# Altium schematic symbol library SparkFun-Boards.SCHLIB: 91 symbols (part 3 of 3)
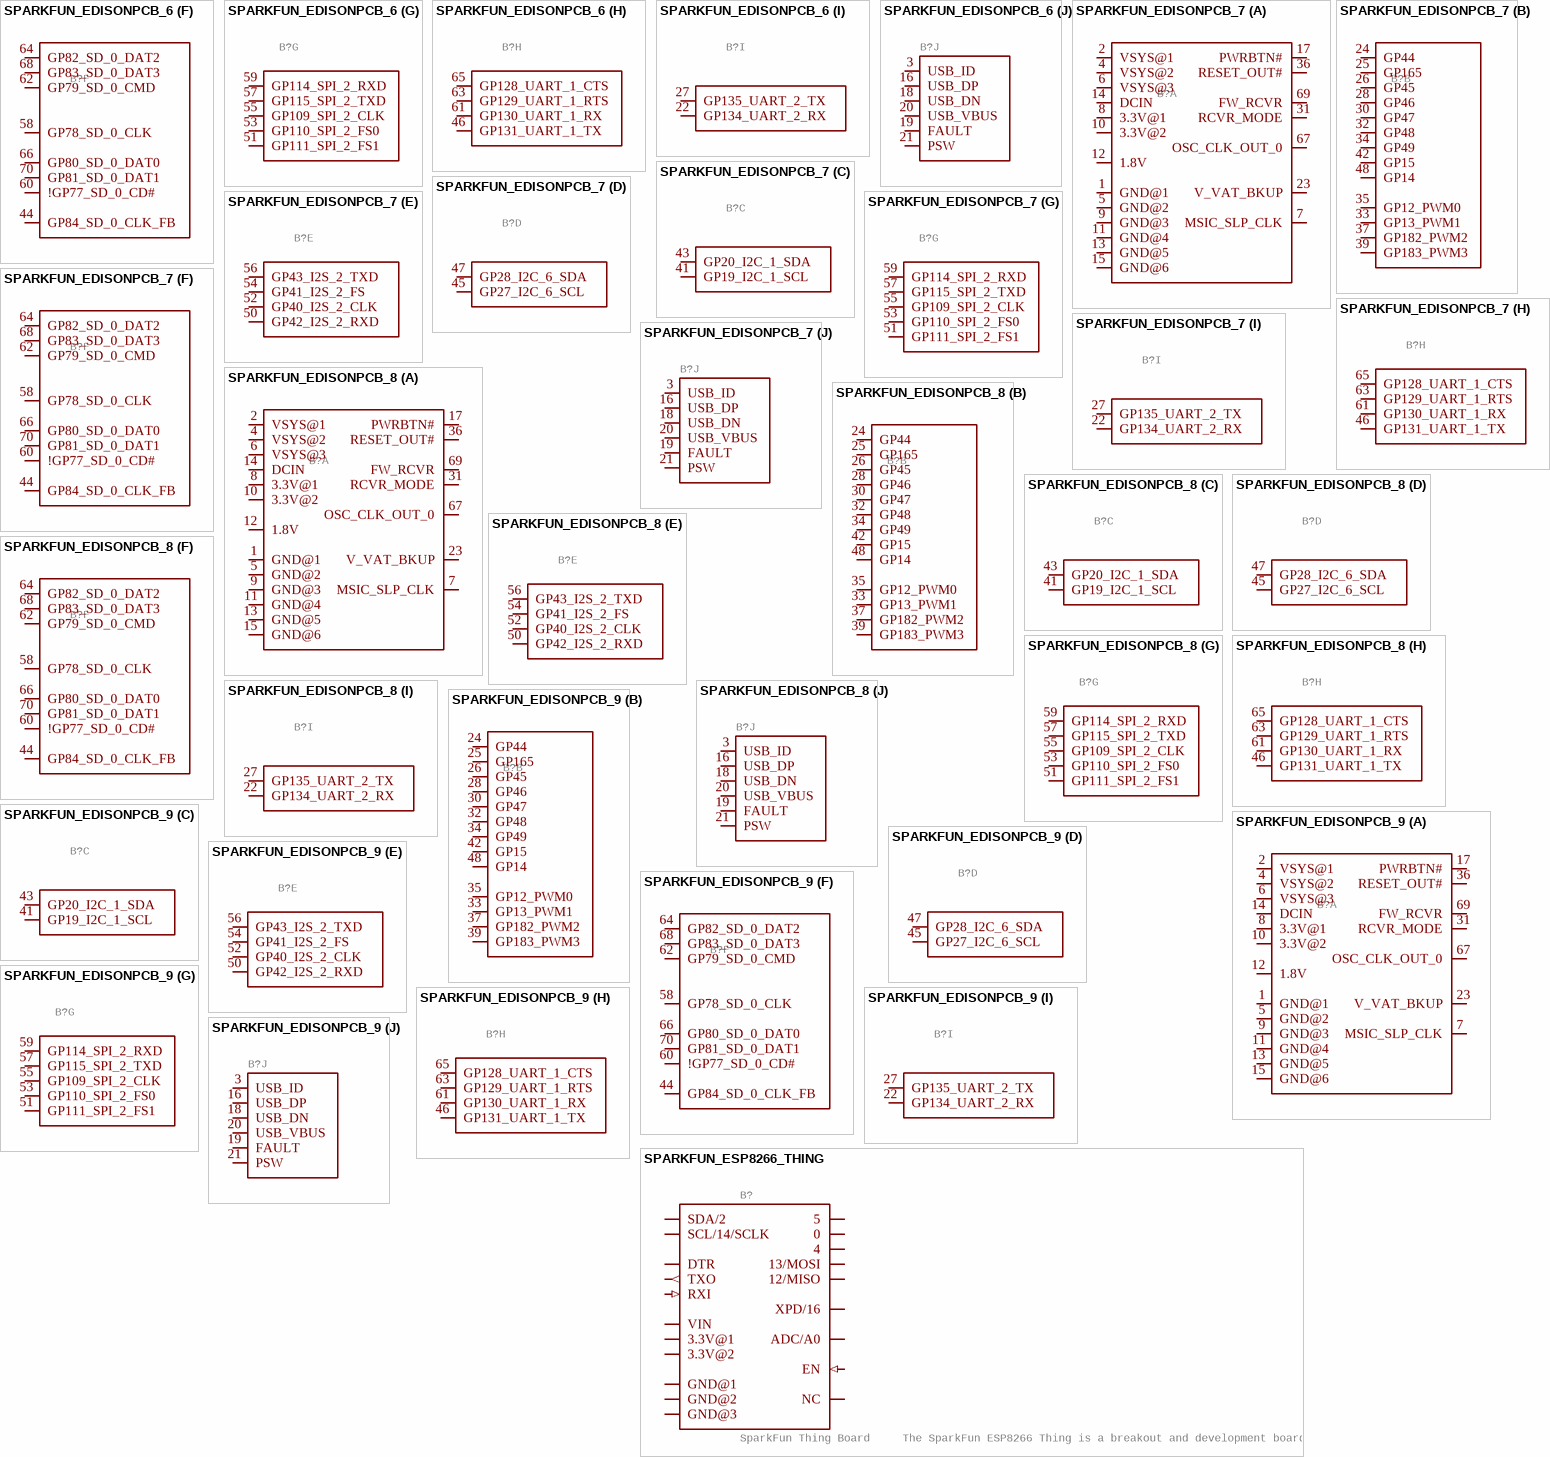
[diagram p14: symbols SPARKFUN_EDISONPCB_6 to SPARKFUN_ESP8266_THING]

## SPARKFUN_EDISONPCB_6
designator B?, comment SparkFun Edison     The IntelÂ® Edison is an ultra small computing platform that will change the way you look at embedded electronics. Each Edison packs a huge amount of tech goodies into a tiny package while still providing the same robust strength of your go-to single board computer. Powered by the IntelÂ® Atomâ„¢ SoC dual-core CPU and including an integrated WiFi, Bluetooth LE, and a 70-pin connector to attach a veritable slew of shield-like â€œBlocksâ€ which can be stacked on top of each other.   This device includes footprints for the Edison module itself, as well as the basic board outline used for our Edison blocks.   SparkFun Products: Intel Edison  SparkFun Console Block  SparkFun GPIO Block  SparkFun Battery Block  SparkFun Base Block  SparkFun 9DOF Block  SparkFun OLED Block  SparkFun Dual H-Bridge Block  SparkFun microSD Block  SparkFun ADC Block  SparkFun I2C Block  SparkFun Arduino Block  SparkFun Power Block  SparkFun PWM Block  SparkFun Raspberry Pi Block  SparkFun UART Block  (value not drawn)
GateName_1: _BASIC; SymbolName_1: EDISON_CONNECTOR_BASE; GateName_2: _GPIO; SymbolName_2: EDISON_CONNECTOR_GPIO; GateName_3: _I2C_1; SymbolName_3: EDISON_CONNECTOR_I2C_1; GateName_4: _I2C_6; SymbolName_4: EDISON_CONNECTOR_I2C_6; GateName_5: _I2S; SymbolName_5: EDISON_CONNECTOR_I2S_2; GateName_6: _SD; SymbolName_6: EDISON_CONNECTOR_SD; GateName_7: _SPI; SymbolName_7: EDISON_CONNECTOR_SPI_2; GateName_8: _UART_1; SymbolName_8: EDISON_CONNECTOR_UART_1; GateName_9: _UART_2; SymbolName_9: EDISON_CONNECTOR_UART_2; GateName_10: _USB; SymbolName_10: EDISON_CONNECTOR_USB; DeviceName: PCB; DeviceSetName: SPARKFUN_EDISON; LibraryName: SparkFun-Boards; Package: SPARKFUN_EDISON_PCB
footprint SPARKFUN_EDISON_PCB
part A pins: 1 GND@1 (power), 2 VSYS@1 (power), 4 VSYS@2 (power), 5 GND@2 (power), 6 VSYS@3 (power), 7 MSIC_SLP_CLK (io), 8 3.3V@1 (power), 9 GND@3 (power), 10 3.3V@2 (power), 11 GND@4 (power), 12 1.8V (power), 13 GND@5 (power), 14 DCIN (power), 15 GND@6 (power), 17 PWRBTN# (io), 23 V_VAT_BKUP (power), 31 RCVR_MODE (io), 36 RESET_OUT# (io), 67 OSC_CLK_OUT_0 (io), 69 FW_RCVR (io)
part B pins: 24 GP44 (io), 25 GP165 (io), 26 GP45 (io), 28 GP46 (io), 30 GP47 (io), 32 GP48 (io), 33 GP13_PWM1 (io), 34 GP49 (io), 35 GP12_PWM0 (io), 37 GP182_PWM2 (io), 39 GP183_PWM3 (io), 42 GP15 (io), 48 GP14 (io)
part C pins: 41 GP19_I2C_1_SCL (io), 43 GP20_I2C_1_SDA (io)
part D pins: 45 GP27_I2C_6_SCL (io), 47 GP28_I2C_6_SDA (io)
part E pins: 50 GP42_I2S_2_RXD (io), 52 GP40_I2S_2_CLK (io), 54 GP41_I2S_2_FS (io), 56 GP43_I2S_2_TXD (io)
part F pins: 44 GP84_SD_0_CLK_FB (io), 58 GP78_SD_0_CLK (io), 60 !GP77_SD_0_CD# (io), 62 GP79_SD_0_CMD (io), 64 GP82_SD_0_DAT2 (io), 66 GP80_SD_0_DAT0 (io), 68 GP83_SD_0_DAT3 (io), 70 GP81_SD_0_DAT1 (io)
part G pins: 51 GP111_SPI_2_FS1 (io), 53 GP110_SPI_2_FS0 (io), 55 GP109_SPI_2_CLK (io), 57 GP115_SPI_2_TXD (io), 59 GP114_SPI_2_RXD (io)
part H pins: 46 GP131_UART_1_TX (io), 61 GP130_UART_1_RX (io), 63 GP129_UART_1_RTS (io), 65 GP128_UART_1_CTS (io)
part I pins: 22 GP134_UART_2_RX (io), 27 GP135_UART_2_TX (io)
part J pins: 3 USB_ID (io), 16 USB_DP (io), 18 USB_DN (io), 19 FAULT (io), 20 USB_VBUS (io), 21 PSW (io)

## SPARKFUN_EDISONPCB_7
designator B?, comment SparkFun Edison     The IntelÂ® Edison is an ultra small computing platform that will change the way you look at embedded electronics. Each Edison packs a huge amount of tech goodies into a tiny package while still providing the same robust strength of your go-to single board computer. Powered by the IntelÂ® Atomâ„¢ SoC dual-core CPU and including an integrated WiFi, Bluetooth LE, and a 70-pin connector to attach a veritable slew of shield-like â€œBlocksâ€ which can be stacked on top of each other.   This device includes footprints for the Edison module itself, as well as the basic board outline used for our Edison blocks.   SparkFun Products: Intel Edison  SparkFun Console Block  SparkFun GPIO Block  SparkFun Battery Block  SparkFun Base Block  SparkFun 9DOF Block  SparkFun OLED Block  SparkFun Dual H-Bridge Block  SparkFun microSD Block  SparkFun ADC Block  SparkFun I2C Block  SparkFun Arduino Block  SparkFun Power Block  SparkFun PWM Block  SparkFun Raspberry Pi Block  SparkFun UART Block  (value not drawn)
GateName_1: _BASIC; SymbolName_1: EDISON_CONNECTOR_BASE; GateName_2: _GPIO; SymbolName_2: EDISON_CONNECTOR_GPIO; GateName_3: _I2C_1; SymbolName_3: EDISON_CONNECTOR_I2C_1; GateName_4: _I2C_6; SymbolName_4: EDISON_CONNECTOR_I2C_6; GateName_5: _I2S; SymbolName_5: EDISON_CONNECTOR_I2S_2; GateName_6: _SD; SymbolName_6: EDISON_CONNECTOR_SD; GateName_7: _SPI; SymbolName_7: EDISON_CONNECTOR_SPI_2; GateName_8: _UART_1; SymbolName_8: EDISON_CONNECTOR_UART_1; GateName_9: _UART_2; SymbolName_9: EDISON_CONNECTOR_UART_2; GateName_10: _USB; SymbolName_10: EDISON_CONNECTOR_USB; DeviceName: PCB; DeviceSetName: SPARKFUN_EDISON; LibraryName: SparkFun-Boards; Package: SPARKFUN_EDISON_PCB
footprint SPARKFUN_EDISON_PCB
part A pins: 1 GND@1 (power), 2 VSYS@1 (power), 4 VSYS@2 (power), 5 GND@2 (power), 6 VSYS@3 (power), 7 MSIC_SLP_CLK (io), 8 3.3V@1 (power), 9 GND@3 (power), 10 3.3V@2 (power), 11 GND@4 (power), 12 1.8V (power), 13 GND@5 (power), 14 DCIN (power), 15 GND@6 (power), 17 PWRBTN# (io), 23 V_VAT_BKUP (power), 31 RCVR_MODE (io), 36 RESET_OUT# (io), 67 OSC_CLK_OUT_0 (io), 69 FW_RCVR (io)
part B pins: 24 GP44 (io), 25 GP165 (io), 26 GP45 (io), 28 GP46 (io), 30 GP47 (io), 32 GP48 (io), 33 GP13_PWM1 (io), 34 GP49 (io), 35 GP12_PWM0 (io), 37 GP182_PWM2 (io), 39 GP183_PWM3 (io), 42 GP15 (io), 48 GP14 (io)
part C pins: 41 GP19_I2C_1_SCL (io), 43 GP20_I2C_1_SDA (io)
part D pins: 45 GP27_I2C_6_SCL (io), 47 GP28_I2C_6_SDA (io)
part E pins: 50 GP42_I2S_2_RXD (io), 52 GP40_I2S_2_CLK (io), 54 GP41_I2S_2_FS (io), 56 GP43_I2S_2_TXD (io)
part F pins: 44 GP84_SD_0_CLK_FB (io), 58 GP78_SD_0_CLK (io), 60 !GP77_SD_0_CD# (io), 62 GP79_SD_0_CMD (io), 64 GP82_SD_0_DAT2 (io), 66 GP80_SD_0_DAT0 (io), 68 GP83_SD_0_DAT3 (io), 70 GP81_SD_0_DAT1 (io)
part G pins: 51 GP111_SPI_2_FS1 (io), 53 GP110_SPI_2_FS0 (io), 55 GP109_SPI_2_CLK (io), 57 GP115_SPI_2_TXD (io), 59 GP114_SPI_2_RXD (io)
part H pins: 46 GP131_UART_1_TX (io), 61 GP130_UART_1_RX (io), 63 GP129_UART_1_RTS (io), 65 GP128_UART_1_CTS (io)
part I pins: 22 GP134_UART_2_RX (io), 27 GP135_UART_2_TX (io)
part J pins: 3 USB_ID (io), 16 USB_DP (io), 18 USB_DN (io), 19 FAULT (io), 20 USB_VBUS (io), 21 PSW (io)

## SPARKFUN_EDISONPCB_8
designator B?, comment SparkFun Edison     The IntelÂ® Edison is an ultra small computing platform that will change the way you look at embedded electronics. Each Edison packs a huge amount of tech goodies into a tiny package while still providing the same robust strength of your go-to single board computer. Powered by the IntelÂ® Atomâ„¢ SoC dual-core CPU and including an integrated WiFi, Bluetooth LE, and a 70-pin connector to attach a veritable slew of shield-like â€œBlocksâ€ which can be stacked on top of each other.   This device includes footprints for the Edison module itself, as well as the basic board outline used for our Edison blocks.   SparkFun Products: Intel Edison  SparkFun Console Block  SparkFun GPIO Block  SparkFun Battery Block  SparkFun Base Block  SparkFun 9DOF Block  SparkFun OLED Block  SparkFun Dual H-Bridge Block  SparkFun microSD Block  SparkFun ADC Block  SparkFun I2C Block  SparkFun Arduino Block  SparkFun Power Block  SparkFun PWM Block  SparkFun Raspberry Pi Block  SparkFun UART Block  (value not drawn)
GateName_1: _BASIC; SymbolName_1: EDISON_CONNECTOR_BASE; GateName_2: _GPIO; SymbolName_2: EDISON_CONNECTOR_GPIO; GateName_3: _I2C_1; SymbolName_3: EDISON_CONNECTOR_I2C_1; GateName_4: _I2C_6; SymbolName_4: EDISON_CONNECTOR_I2C_6; GateName_5: _I2S; SymbolName_5: EDISON_CONNECTOR_I2S_2; GateName_6: _SD; SymbolName_6: EDISON_CONNECTOR_SD; GateName_7: _SPI; SymbolName_7: EDISON_CONNECTOR_SPI_2; GateName_8: _UART_1; SymbolName_8: EDISON_CONNECTOR_UART_1; GateName_9: _UART_2; SymbolName_9: EDISON_CONNECTOR_UART_2; GateName_10: _USB; SymbolName_10: EDISON_CONNECTOR_USB; DeviceName: PCB; DeviceSetName: SPARKFUN_EDISON; LibraryName: SparkFun-Boards; Package: SPARKFUN_EDISON_PCB
footprint SPARKFUN_EDISON_PCB
part A pins: 1 GND@1 (power), 2 VSYS@1 (power), 4 VSYS@2 (power), 5 GND@2 (power), 6 VSYS@3 (power), 7 MSIC_SLP_CLK (io), 8 3.3V@1 (power), 9 GND@3 (power), 10 3.3V@2 (power), 11 GND@4 (power), 12 1.8V (power), 13 GND@5 (power), 14 DCIN (power), 15 GND@6 (power), 17 PWRBTN# (io), 23 V_VAT_BKUP (power), 31 RCVR_MODE (io), 36 RESET_OUT# (io), 67 OSC_CLK_OUT_0 (io), 69 FW_RCVR (io)
part B pins: 24 GP44 (io), 25 GP165 (io), 26 GP45 (io), 28 GP46 (io), 30 GP47 (io), 32 GP48 (io), 33 GP13_PWM1 (io), 34 GP49 (io), 35 GP12_PWM0 (io), 37 GP182_PWM2 (io), 39 GP183_PWM3 (io), 42 GP15 (io), 48 GP14 (io)
part C pins: 41 GP19_I2C_1_SCL (io), 43 GP20_I2C_1_SDA (io)
part D pins: 45 GP27_I2C_6_SCL (io), 47 GP28_I2C_6_SDA (io)
part E pins: 50 GP42_I2S_2_RXD (io), 52 GP40_I2S_2_CLK (io), 54 GP41_I2S_2_FS (io), 56 GP43_I2S_2_TXD (io)
part F pins: 44 GP84_SD_0_CLK_FB (io), 58 GP78_SD_0_CLK (io), 60 !GP77_SD_0_CD# (io), 62 GP79_SD_0_CMD (io), 64 GP82_SD_0_DAT2 (io), 66 GP80_SD_0_DAT0 (io), 68 GP83_SD_0_DAT3 (io), 70 GP81_SD_0_DAT1 (io)
part G pins: 51 GP111_SPI_2_FS1 (io), 53 GP110_SPI_2_FS0 (io), 55 GP109_SPI_2_CLK (io), 57 GP115_SPI_2_TXD (io), 59 GP114_SPI_2_RXD (io)
part H pins: 46 GP131_UART_1_TX (io), 61 GP130_UART_1_RX (io), 63 GP129_UART_1_RTS (io), 65 GP128_UART_1_CTS (io)
part I pins: 22 GP134_UART_2_RX (io), 27 GP135_UART_2_TX (io)
part J pins: 3 USB_ID (io), 16 USB_DP (io), 18 USB_DN (io), 19 FAULT (io), 20 USB_VBUS (io), 21 PSW (io)

## SPARKFUN_EDISONPCB_9
designator B?, comment SparkFun Edison     The IntelÂ® Edison is an ultra small computing platform that will change the way you look at embedded electronics. Each Edison packs a huge amount of tech goodies into a tiny package while still providing the same robust strength of your go-to single board computer. Powered by the IntelÂ® Atomâ„¢ SoC dual-core CPU and including an integrated WiFi, Bluetooth LE, and a 70-pin connector to attach a veritable slew of shield-like â€œBlocksâ€ which can be stacked on top of each other.   This device includes footprints for the Edison module itself, as well as the basic board outline used for our Edison blocks.   SparkFun Products: Intel Edison  SparkFun Console Block  SparkFun GPIO Block  SparkFun Battery Block  SparkFun Base Block  SparkFun 9DOF Block  SparkFun OLED Block  SparkFun Dual H-Bridge Block  SparkFun microSD Block  SparkFun ADC Block  SparkFun I2C Block  SparkFun Arduino Block  SparkFun Power Block  SparkFun PWM Block  SparkFun Raspberry Pi Block  SparkFun UART Block  (value not drawn)
GateName_1: _BASIC; SymbolName_1: EDISON_CONNECTOR_BASE; GateName_2: _GPIO; SymbolName_2: EDISON_CONNECTOR_GPIO; GateName_3: _I2C_1; SymbolName_3: EDISON_CONNECTOR_I2C_1; GateName_4: _I2C_6; SymbolName_4: EDISON_CONNECTOR_I2C_6; GateName_5: _I2S; SymbolName_5: EDISON_CONNECTOR_I2S_2; GateName_6: _SD; SymbolName_6: EDISON_CONNECTOR_SD; GateName_7: _SPI; SymbolName_7: EDISON_CONNECTOR_SPI_2; GateName_8: _UART_1; SymbolName_8: EDISON_CONNECTOR_UART_1; GateName_9: _UART_2; SymbolName_9: EDISON_CONNECTOR_UART_2; GateName_10: _USB; SymbolName_10: EDISON_CONNECTOR_USB; DeviceName: PCB; DeviceSetName: SPARKFUN_EDISON; LibraryName: SparkFun-Boards; Package: SPARKFUN_EDISON_PCB
footprint SPARKFUN_EDISON_PCB
part A pins: 1 GND@1 (power), 2 VSYS@1 (power), 4 VSYS@2 (power), 5 GND@2 (power), 6 VSYS@3 (power), 7 MSIC_SLP_CLK (io), 8 3.3V@1 (power), 9 GND@3 (power), 10 3.3V@2 (power), 11 GND@4 (power), 12 1.8V (power), 13 GND@5 (power), 14 DCIN (power), 15 GND@6 (power), 17 PWRBTN# (io), 23 V_VAT_BKUP (power), 31 RCVR_MODE (io), 36 RESET_OUT# (io), 67 OSC_CLK_OUT_0 (io), 69 FW_RCVR (io)
part B pins: 24 GP44 (io), 25 GP165 (io), 26 GP45 (io), 28 GP46 (io), 30 GP47 (io), 32 GP48 (io), 33 GP13_PWM1 (io), 34 GP49 (io), 35 GP12_PWM0 (io), 37 GP182_PWM2 (io), 39 GP183_PWM3 (io), 42 GP15 (io), 48 GP14 (io)
part C pins: 41 GP19_I2C_1_SCL (io), 43 GP20_I2C_1_SDA (io)
part D pins: 45 GP27_I2C_6_SCL (io), 47 GP28_I2C_6_SDA (io)
part E pins: 50 GP42_I2S_2_RXD (io), 52 GP40_I2S_2_CLK (io), 54 GP41_I2S_2_FS (io), 56 GP43_I2S_2_TXD (io)
part F pins: 44 GP84_SD_0_CLK_FB (io), 58 GP78_SD_0_CLK (io), 60 !GP77_SD_0_CD# (io), 62 GP79_SD_0_CMD (io), 64 GP82_SD_0_DAT2 (io), 66 GP80_SD_0_DAT0 (io), 68 GP83_SD_0_DAT3 (io), 70 GP81_SD_0_DAT1 (io)
part G pins: 51 GP111_SPI_2_FS1 (io), 53 GP110_SPI_2_FS0 (io), 55 GP109_SPI_2_CLK (io), 57 GP115_SPI_2_TXD (io), 59 GP114_SPI_2_RXD (io)
part H pins: 46 GP131_UART_1_TX (io), 61 GP130_UART_1_RX (io), 63 GP129_UART_1_RTS (io), 65 GP128_UART_1_CTS (io)
part I pins: 22 GP134_UART_2_RX (io), 27 GP135_UART_2_TX (io)
part J pins: 3 USB_ID (io), 16 USB_DP (io), 18 USB_DN (io), 19 FAULT (io), 20 USB_VBUS (io), 21 PSW (io)

## SPARKFUN_ESP8266_THING
designator B?, comment SparkFun Thing Board     The SparkFun ESP8266 Thing is a breakout and development board for the ESP8266 WiFi SoC   SparkFun Products:  SparkFun ESP8266 Thing
GateName_1: G$1; SymbolName_1: ESP8266_THING; DeviceSetName: SPARKFUN_ESP8266_THING; SF_ID: WRL-13231; LibraryName: SparkFun-Boards; Package: SPARKFUN_ESP8266_THING
footprint SPARKFUN_ESP8266_THING
pins: 0 (io), 3.3V@1 (power), 3.3V@2 (power), 4 (io), 5 (io), 12 12/MISO (io), 13 13/MOSI (io), ADC ADC/A0 (io), DTR (io), EN (in), GND@1 (power), GND@2 (power), GND@3 (power), NC, RXI (in), SCL SCL/14/SCLK (io), SDA SDA/2 (io), TXO (out), VIN (power), XPD XPD/16 (io)

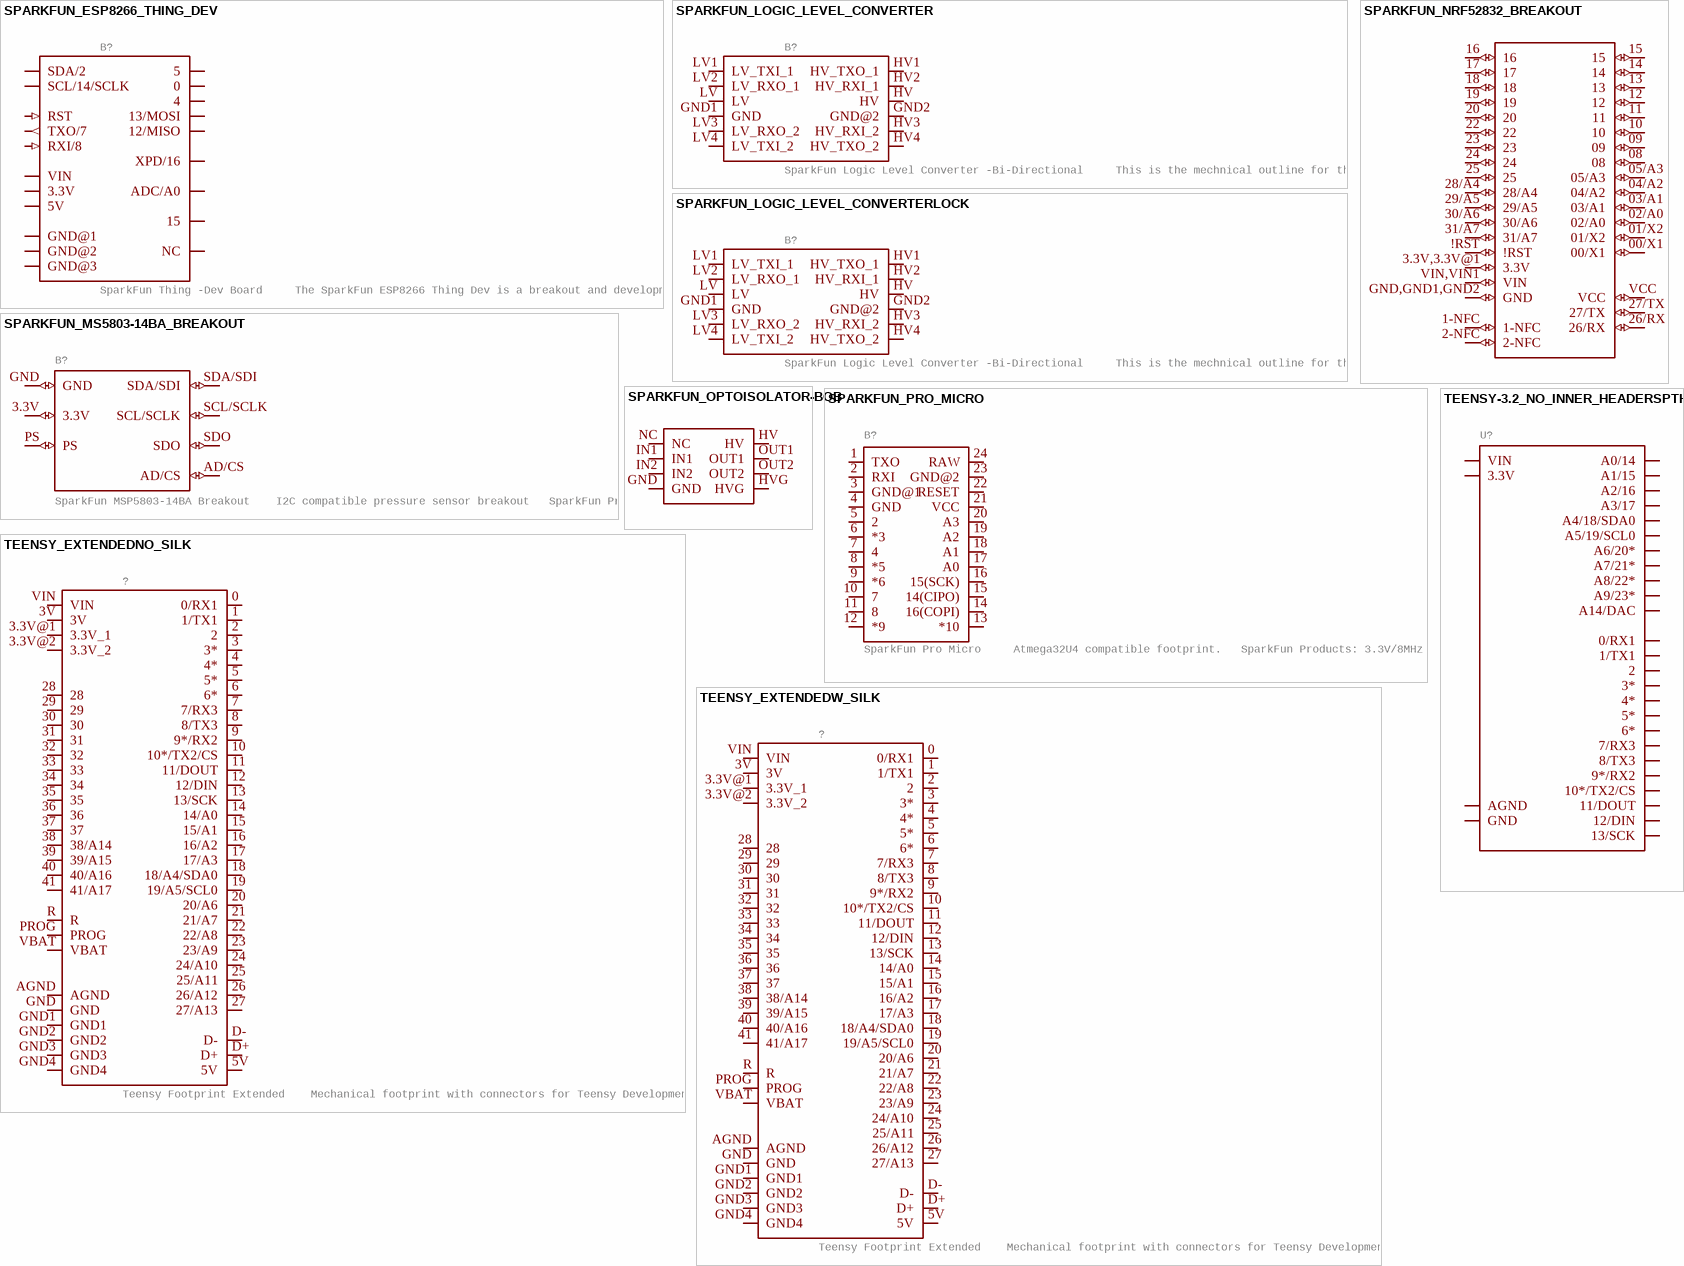
[diagram p11: symbols SPARKFUN_ESP8266_THING_DEV to TEENSY_EXTENDEDW_SILK]

## SPARKFUN_ESP8266_THING_DEV
designator B?, comment SparkFun Thing -Dev Board     The SparkFun ESP8266 Thing Dev is a breakout and development board for the ESP8266 WiFi SoC, with an integrated FTDI USB-to-Serial chip.   SparkFun Products:  SparkFun ESP8266 Thing-Dev Board
GateName_1: G$1; SymbolName_1: ESP8266_THING_DEV; DeviceSetName: SPARKFUN_ESP8266_THING_DEV; SF_ID: WRL-13711; LibraryName: SparkFun-Boards; Package: SPARKFUN_ESP8266_THING_DEV
footprint SPARKFUN_ESP8266_THING_DEV
pins: 0 (io), 2 SDA/2 (io), 3.3V (power), 4 (io), 5 (io), 5V (power), 12 12/MISO (io), 13 13/MOSI (io), 14 SCL/14/SCLK (io), 15 (io), 16 XPD/16 (io), ADC ADC/A0 (io), GND@1 (power), GND@2 (power), GND@3 (power), NC, RST (in), RX RXI/8 (in), TX TXO/7 (out), VIN (power)

## SPARKFUN_LOGIC_LEVEL_CONVERTER
designator B?, comment SparkFun Logic Level Converter -Bi-Directional     This is the mechnical outline for the 3.3V - 5V bi directional logic level converter.    *Note, the "LOCK" Package has the header pins staggered by an offset of 5 mils (off center line), so that when you slide a row of standard 0.1" headers into the PTH pads, it will hold position vertically.See the follwing turorial for more information on this type of special footprints: Sneaky Footprints   SparkFun Products: SparkFun Logic Level Converter - Bi-Directional
GateName_1: G$1; SymbolName_1: LOGIC_LEVEL_CONVERTER; DeviceSetName: SPARKFUN_LOGIC_LEVEL_CONVERTER; LibraryName: SparkFun-Boards; Package: SPARKFUN_LOGIC_LEVEL_CONVERTER
footprint SPARKFUN_LOGIC_LEVEL_CONVERTER
pins: GND1 GND (power), GND2 GND@2 (power), HV (power), HV1 HV_TXO_1 (io), HV2 HV_RXI_1 (io), HV3 HV_RXI_2 (io), HV4 HV_TXO_2 (io), LV (power), LV1 LV_TXI_1 (io), LV2 LV_RXO_1 (io), LV3 LV_RXO_2 (io), LV4 LV_TXI_2 (io)

## SPARKFUN_LOGIC_LEVEL_CONVERTERLOCK
designator B?, comment SparkFun Logic Level Converter -Bi-Directional     This is the mechnical outline for the 3.3V - 5V bi directional logic level converter.    *Note, the "LOCK" Package has the header pins staggered by an offset of 5 mils (off center line), so that when you slide a row of standard 0.1" headers into the PTH pads, it will hold position vertically.See the follwing turorial for more information on this type of special footprints: Sneaky Footprints   SparkFun Products: SparkFun Logic Level Converter - Bi-Directional
GateName_1: G$1; SymbolName_1: LOGIC_LEVEL_CONVERTER; DeviceName: LOCK; DeviceSetName: SPARKFUN_LOGIC_LEVEL_CONVERTER; LibraryName: SparkFun-Boards; Package: SPARKFUN_LOGIC_LEVEL_CONVERTER_LOCK
footprint SPARKFUN_LOGIC_LEVEL_CONVERTER_LOCK
pins: GND1 GND (power), GND2 GND@2 (power), HV (power), HV1 HV_TXO_1 (io), HV2 HV_RXI_1 (io), HV3 HV_RXI_2 (io), HV4 HV_TXO_2 (io), LV (power), LV1 LV_TXI_1 (io), LV2 LV_RXO_1 (io), LV3 LV_RXO_2 (io), LV4 LV_TXI_2 (io)

## SPARKFUN_MS5803-14BA_BREAKOUT
designator B?, comment SparkFun MSP5803-14BA Breakout    I2C compatible pressure sensor breakout   SparkFun Products: SparkFun MSP5803-14BA Breakout
GateName_1: G$1; SymbolName_1: SPARKFUN_MS5803-14BA_BREAKOUT; SF_ID: SEN-12909; LibraryName: SparkFun-Boards; DeviceSetName: SPARKFUN_MS5803-14BA_BREAKOUT; Package: SPARKFUN_MS5803-14BA_BREAKOUT
footprint SPARKFUN_MS5803-14BA_BREAKOUT
pins: 3.3V (io), AD/CS (io), GND (io), PS (io), SCL/SCLK (io), SDA/SDI (io), SDO (io)

## SPARKFUN_NRF52832_BREAKOUT
designator B?, comment SparkFun nRF52832 Breakout    SoC microcontroller with BLE, ANT, Nordic support, and 2.4Ghz multiprotocol radio   SparkFun Products: SparkFun nRF52832 Breakout  (value not drawn)
GateName_1: G$1; SymbolName_1: SPARKFUN_NRF52832_BREAKOUT; SF_ID: WRL-13990; LibraryName: SparkFun-Boards; DeviceSetName: SPARKFUN_NRF52832_BREAKOUT; Package: SPARKFUN_NRF52832_BREAKOUT
footprint SPARKFUN_NRF52832_BREAKOUT
pins: 00/X1 (io), 1-NFC (io), 01/X2 (io), 2-NFC (io), 02/A0 (io), 3.3V,3.3V@1 3.3V (io), 03/A1 (io), 04/A2 (io), 05/A3 (io), 08 (io), 09 (io), 10 (io), 11 (io), 12 (io), 13 (io), 14 (io), 15 (io), 16 (io), 17 (io), 18 (io), 19 (io), 20 (io), 22 (io), 23 (io), 24 (io), 25 (io), 26/RX (io), 27/TX (io), 28/A4 (io), 29/A5 (io), 30/A6 (io), 31/A7 (io), !RST (io), GND,GND1,GND2 GND (io), VCC (io), VIN,VIN1 VIN (io)

## SPARKFUN_OPTOISOLATOR-BOB
designator ?
GateName_1: G$1; SymbolName_1: SPARKFUN_OPTOISOLATOR-BOB; LibraryName: SparkFun-Boards; DeviceSetName: SPARKFUN_OPTOISOLATOR-BOB; Package: SPARKFUN_OPTOISOLATOR-BOB
footprint SPARKFUN_OPTOISOLATOR-BOB
pins: GND (io), HV (io), HVG (io), IN1 (io), IN2 (io), NC (io), OUT1 (io), OUT2 (io)

## SPARKFUN_PRO_MICRO
designator B?, comment SparkFun Pro Micro     Atmega32U4 compatible footprint.   SparkFun Products: 3.3V/8MHz  5V/16MHz
GateName_1: G$1; SymbolName_1: SPARKFUN_PRO_MICRO; LibraryName: SparkFun-Boards; DeviceSetName: SPARKFUN_PRO_MICRO; Package: SPARKFUN_PRO_MICRO
footprint SPARKFUN_PRO_MICRO
pins: 1 TXO (io), 2 RXI (io), 3 GND@1 (power), 4 GND (power), 5 2 (io), 6 *3 (io), 7 4 (io), 8 *5 (io), 9 *6 (io), 10 7 (io), 11 8 (io), 12 *9 (io), 13 *10 (io), 14 16(COPI) (io), 15 14(CIPO) (io), 16 15(SCK) (io), 17 A0 (io), 18 A1 (io), 19 A2 (io), 20 A3 (io), 21 VCC (power), 22 RESET (io), 23 GND@2 (power), 24 RAW (power)

## TEENSY-3.2_NO_INNER_HEADERSPTH
designator U?
GateName_1: U1; SymbolName_1: TEENSY_TEENSY-3.2; DeviceName: PTH; DeviceSetName: TEENSY-3.2_NO_INNER_HEADERS; LibraryName: SparkFun-Boards; Package: TEENSY_TEENSY-3.2-PTH
footprint TEENSY_TEENSY-3.2-PTH
pins: 0 0/RX1 (io), 1 1/TX1 (io), 2 (io), 3 3* (io), 3.3V,3.3V-1 3.3V (io), 4 4* (io), 5 5* (io), 6 6* (io), 7 7/RX3 (io), 8 8/TX3 (io), 9 9*/RX2 (io), 10 10*/TX2/CS (io), 11 11/DOUT (io), 12 12/DIN (io), 13 13/SCK (io), 14 A0/14 (io), 15 A1/15 (io), 16 A2/16 (io), 17 A3/17 (io), 18 A4/18/SDA0 (io), 19 A5/19/SCL0 (io), 20 A6/20* (io), 21 A7/21* (io), 22 A8/22* (io), 23 A9/23* (io), A14/DAC (io), AGND (io), GND,GND1 GND (io), VIN (io)

## TEENSY_EXTENDEDNO_SILK
designator ?, comment Teensy Footprint Extended    Mechanical footprint with connectors for Teensy Development Board with ARM Cortex.   SparkFun Products:
GateName_1: G$1; SymbolName_1: TEENSY_EXTENDED; DeviceName: NO_SILK; LibraryName: SparkFun-Boards; DeviceSetName: TEENSY_EXTENDED; Package: TEENSY_EXTENDED_NO_SILK
footprint TEENSY_EXTENDED_NO_SILK
pins: 0 0/RX1 (io), 1 1/TX1 (io), 2 (io), 3 3* (io), 3.3V@1 3.3V_1 (power), 3.3V@2 3.3V_2 (power), 3V (power), 4 4* (io), 5 5* (io), 5V (power), 6 6* (io), 7 7/RX3 (io), 8 8/TX3 (io), 9 9*/RX2 (io), 10 10*/TX2/CS (io), 11 11/DOUT (io), 12 12/DIN (io), 13 13/SCK (io), 14 14/A0 (io), 15 15/A1 (io), 16 16/A2 (io), 17 17/A3 (io), 18 18/A4/SDA0 (io), 19 19/A5/SCL0 (io), 20 20/A6 (io), 21 21/A7 (io), 22 22/A8 (io), 23 23/A9 (io), 24 24/A10 (io), 25 25/A11 (io), 26 26/A12 (io), 27 27/A13 (io), 28 (io), 29 (io), 30 (io), 31 (io), 32 (io), 33 (io), 34 (io), 35 (io), 36 (io), 37 (io), 38 38/A14 (io), 39 39/A15 (io), 40 40/A16 (io), 41 41/A17 (io), AGND (power), D+ (power), D- (power), GND (power), GND1 (power), GND2 (power), GND3 (power), GND4 (io), PROG (io), R (io), VBAT (power), VIN (power)

## TEENSY_EXTENDEDW_SILK
designator ?, comment Teensy Footprint Extended    Mechanical footprint with connectors for Teensy Development Board with ARM Cortex.   SparkFun Products:
GateName_1: G$1; SymbolName_1: TEENSY_EXTENDED; DeviceName: W_SILK; LibraryName: SparkFun-Boards; DeviceSetName: TEENSY_EXTENDED; Package: TEENSY_EXTENDED
footprint TEENSY_EXTENDED
pins: 0 0/RX1 (io), 1 1/TX1 (io), 2 (io), 3 3* (io), 3.3V@1 3.3V_1 (power), 3.3V@2 3.3V_2 (power), 3V (power), 4 4* (io), 5 5* (io), 5V (power), 6 6* (io), 7 7/RX3 (io), 8 8/TX3 (io), 9 9*/RX2 (io), 10 10*/TX2/CS (io), 11 11/DOUT (io), 12 12/DIN (io), 13 13/SCK (io), 14 14/A0 (io), 15 15/A1 (io), 16 16/A2 (io), 17 17/A3 (io), 18 18/A4/SDA0 (io), 19 19/A5/SCL0 (io), 20 20/A6 (io), 21 21/A7 (io), 22 22/A8 (io), 23 23/A9 (io), 24 24/A10 (io), 25 25/A11 (io), 26 26/A12 (io), 27 27/A13 (io), 28 (io), 29 (io), 30 (io), 31 (io), 32 (io), 33 (io), 34 (io), 35 (io), 36 (io), 37 (io), 38 38/A14 (io), 39 39/A15 (io), 40 40/A16 (io), 41 41/A17 (io), AGND (power), D+ (power), D- (power), GND (power), GND1 (power), GND2 (power), GND3 (power), GND4 (io), PROG (io), R (io), VBAT (power), VIN (power)

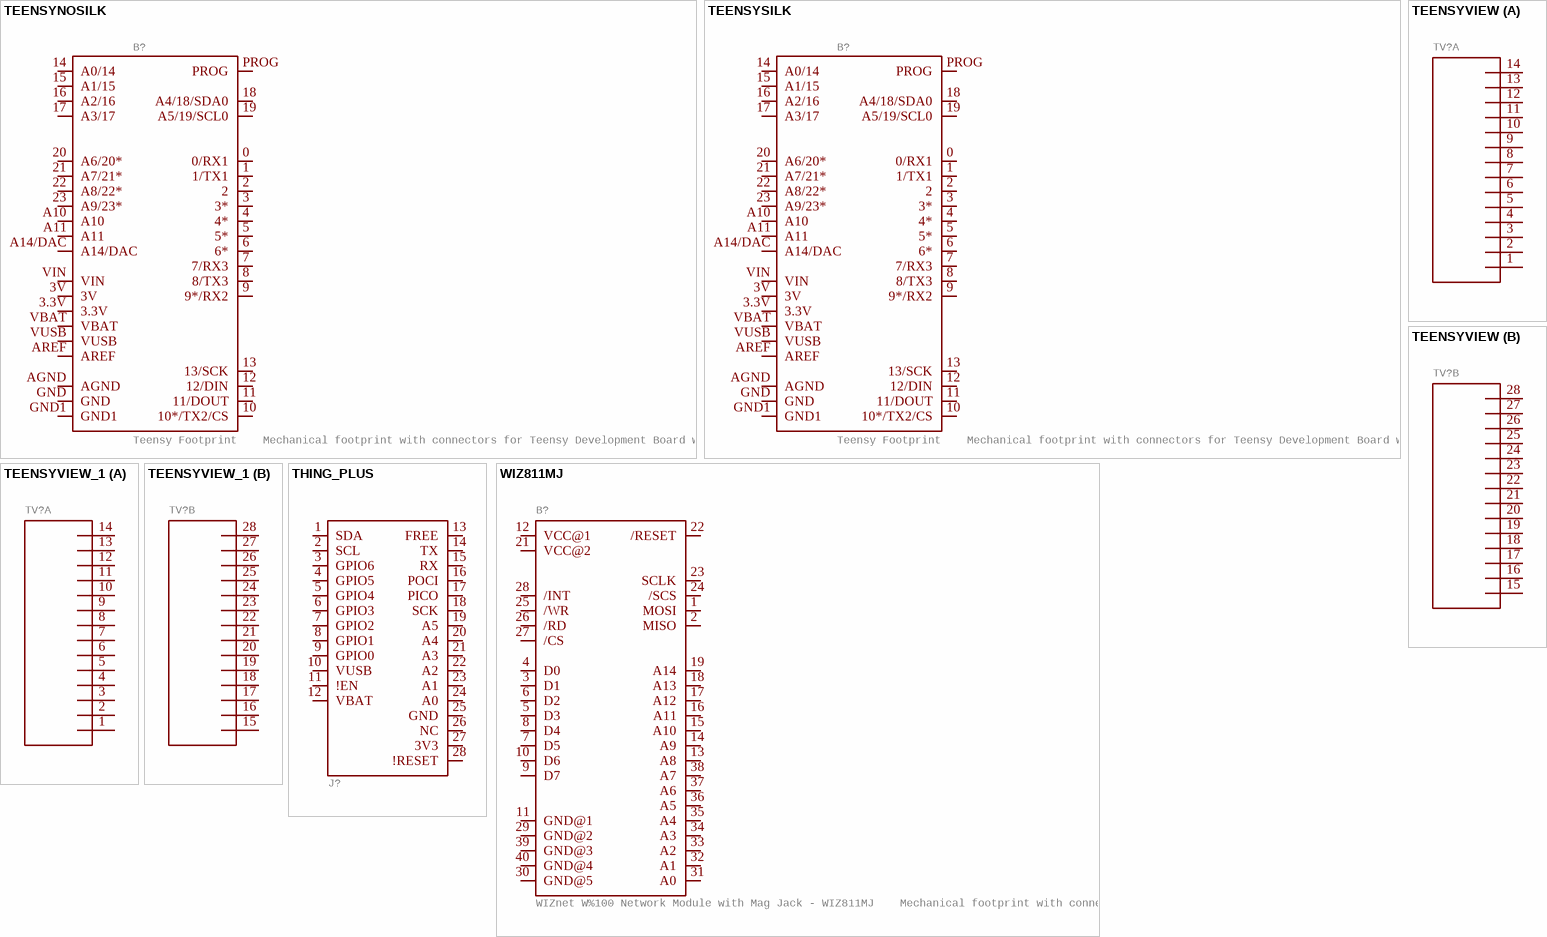
[diagram p12: symbols TEENSYNOSILK to WIZ811MJ]

## TEENSYNOSILK
designator B?, comment Teensy Footprint    Mechanical footprint with connectors for Teensy Development Board with ARM Cortex.   SparkFun Products:
GateName_1: G$1; DeviceName: NOSILK; SF_ID: DEV-12646; SymbolName_1: TEENSY; LibraryName: SparkFun-Boards; DeviceSetName: TEENSY; Package: TEENSY_NOSILK
footprint TEENSY_NOSILK
pins: 0 0/RX1 (io), 1 1/TX1 (io), 2 (io), 3 3* (io), 3.3V (power), 3V (power), 4 4* (io), 5 5* (io), 6 6* (io), 7 7/RX3 (io), 8 8/TX3 (io), 9 9*/RX2 (io), 10 10*/TX2/CS (io), 11 11/DOUT (io), 12 12/DIN (io), 13 13/SCK (io), 14 A0/14 (io), 15 A1/15 (io), 16 A2/16 (io), 17 A3/17 (io), 18 A4/18/SDA0 (io), 19 A5/19/SCL0 (io), 20 A6/20* (io), 21 A7/21* (io), 22 A8/22* (io), 23 A9/23* (io), A10 (io), A11 (io), A14/DAC (io), AGND (power), AREF (io), GND (power), GND1 (power), PROG (io), VBAT (power), VIN (power), VUSB (power)

## TEENSYSILK
designator B?, comment Teensy Footprint    Mechanical footprint with connectors for Teensy Development Board with ARM Cortex.   SparkFun Products:
GateName_1: G$1; DeviceName: SILK; SF_ID: DEV-12646; SymbolName_1: TEENSY; LibraryName: SparkFun-Boards; DeviceSetName: TEENSY; Package: TEENSY
footprint TEENSY
pins: 0 0/RX1 (io), 1 1/TX1 (io), 2 (io), 3 3* (io), 3.3V (power), 3V (power), 4 4* (io), 5 5* (io), 6 6* (io), 7 7/RX3 (io), 8 8/TX3 (io), 9 9*/RX2 (io), 10 10*/TX2/CS (io), 11 11/DOUT (io), 12 12/DIN (io), 13 13/SCK (io), 14 A0/14 (io), 15 A1/15 (io), 16 A2/16 (io), 17 A3/17 (io), 18 A4/18/SDA0 (io), 19 A5/19/SCL0 (io), 20 A6/20* (io), 21 A7/21* (io), 22 A8/22* (io), 23 A9/23* (io), A10 (io), A11 (io), A14/DAC (io), AGND (power), AREF (io), GND (power), GND1 (power), PROG (io), VBAT (power), VIN (power), VUSB (power)

## TEENSYVIEW
designator TV?
GateName_1: G1; SymbolName_1: TEENSYVIEW_1; GateName_2: G2; SymbolName_2: TEENSYVIEW_2; DeviceSetName: TEENSYVIEW; LibraryName: SparkFun-Boards; Package: TEENSYVIEW
footprint TEENSYVIEW
part A pins: 1, 2, 3, 4, 5, 6, 7, 8, 9, 10, 11, 12, 13, 14
part B pins: 15 1, 16 2, 17 3, 18 4, 19 5, 20 6, 21 7, 22 8, 23 9, 24 10, 25 11, 26 12, 27 13, 28 14

## TEENSYVIEW_1
designator TV?
GateName_1: G1; SymbolName_1: TEENSYVIEW_1; GateName_2: G2; SymbolName_2: TEENSYVIEW_2; DeviceSetName: TEENSYVIEW; LibraryName: SparkFun-Boards; Package: TEENSYVIEW
footprint TEENSYVIEW
part A pins: 1, 2, 3, 4, 5, 6, 7, 8, 9, 10, 11, 12, 13, 14
part B pins: 15 1, 16 2, 17 3, 18 4, 19 5, 20 6, 21 7, 22 8, 23 9, 24 10, 25 11, 26 12, 27 13, 28 14

## THING_PLUS
designator J?
GateName_1: G$1; SymbolName_1: THING_PLUS; LibraryName: SparkFun-Boards; DeviceSetName: THING_PLUS; Package: THING_PLUS
footprint THING_PLUS
pins: 1 SDA (io), 2 SCL (io), 3 GPIO6 (io), 4 GPIO5 (io), 5 GPIO4 (io), 6 GPIO3 (io), 7 GPIO2 (io), 8 GPIO1 (io), 9 GPIO0 (io), 10 VUSB (io), 11 !EN (io), 12 VBAT (io), 13 FREE (io), 14 TX (io), 15 RX (io), 16 POCI (io), 17 PICO (io), 18 SCK (io), 19 A5 (io), 20 A4 (io), 21 A3 (io), 22 A2 (io), 23 A1 (io), 24 A0 (io), 25 GND (io), 26 NC (io), 27 3V3 (io), 28 !RESET (io)

## WIZ811MJ
designator B?, comment WIZnet W%100 Network Module with Mag Jack - WIZ811MJ    Mechanical footprint with connectors for WIZ811MJ Breakout board with RJ45 connector.   SparkFun Products:
GateName_1: G$1; SymbolName_1: WIZ811MJ; LibraryName: SparkFun-Boards; DeviceSetName: WIZ811MJ; Package: WIZ811MJ
footprint WIZ811MJ
pins: 1 MOSI (io), 2 MISO (io), 3 D1 (io), 4 D0 (io), 5 D3 (io), 6 D2 (io), 7 D5 (io), 8 D4 (io), 9 D7 (io), 10 D6 (io), 11 GND@1 (io), 12 VCC@1 (io), 13 A8 (io), 14 A9 (io), 15 A10 (io), 16 A11 (io), 17 A12 (io), 18 A13 (io), 19 A14 (io), 21 VCC@2 (io), 22 /RESET (io), 23 SCLK (io), 24 /SCS (io), 25 /WR (io), 26 /RD (io), 27 /CS (io), 28 /INT (io), 29 GND@2 (io), 30 GND@5 (io), 31 A0 (io), 32 A1 (io), 33 A2 (io), 34 A3 (io), 35 A4 (io), 36 A5 (io), 37 A6 (io), 38 A7 (io), 39 GND@3 (io), 40 GND@4 (io)